# Altium footprint library IPC-SM-782 Section 11.2 SQFP_QFP-Square.PcbLib: 78 footprints (part 5 of 7)
Each footprint in its own frame and in the unit in brackets; x right, y up, seen from the top. Pads: shape width x height; smd on the part's side, far side on the other; paste and mask are expansions set on the pad; w line width, h text height; cw(c..) or ccw(c..) is an arc to the next point about the centre after c.
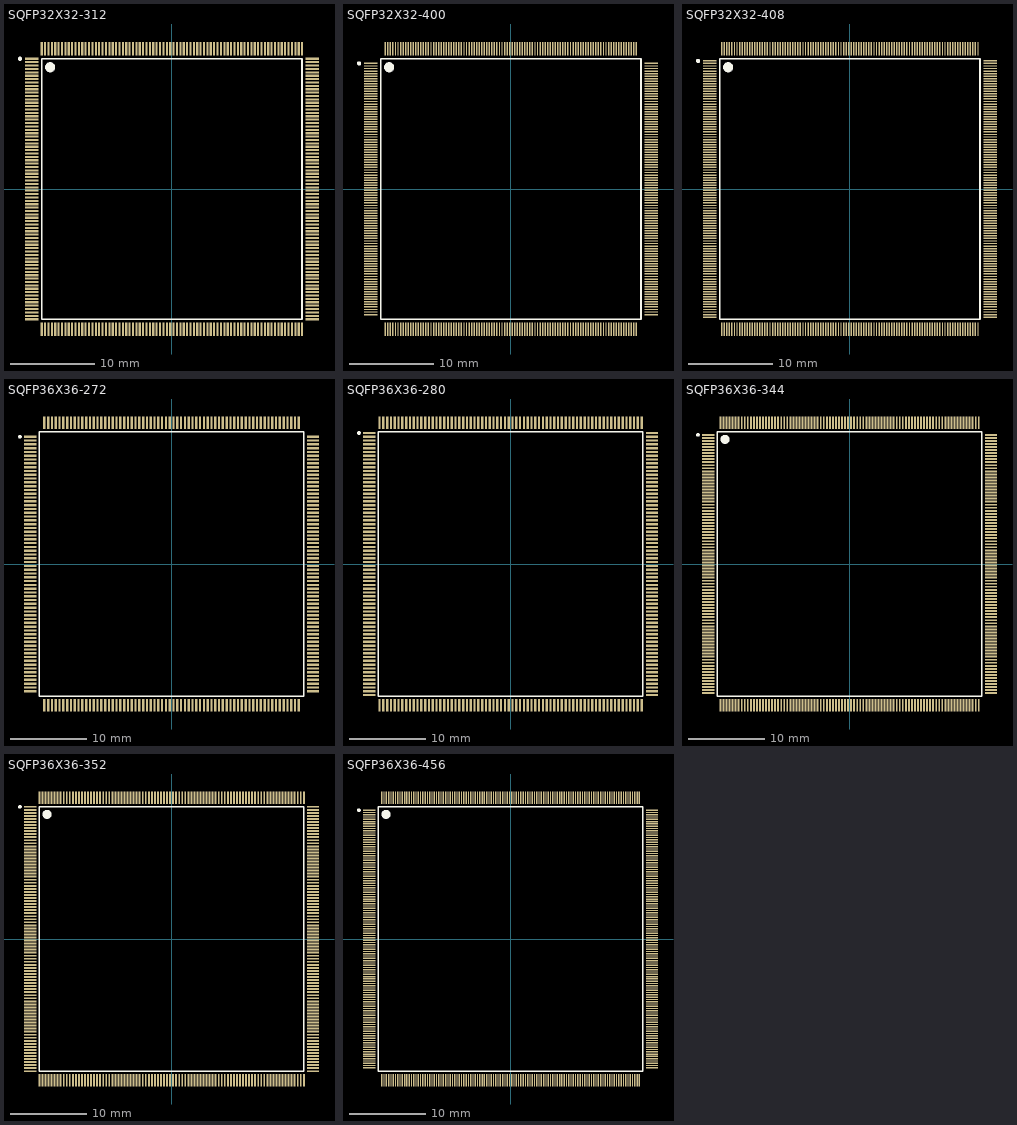
[diagram p4: the footprints below, top view; thin cyan lines are the x and y axes]

## SQFP32X32-312 [mm] "QFP; 312 Leads; Body 32 x 32 mm; Pitch 0.4 mm"
height 4.2
pads (312):
  rect 1.6x0.25 smd: 1(-16.6,15.4) 2(-16.6,15) 3(-16.6,14.6) 4(-16.6,14.2) 5(-16.6,13.8) 6(-16.6,13.4) 7(-16.6,13) 8(-16.6,12.6) 9(-16.6,12.2) 10(-16.6,11.8) 11(-16.6,11.4) 12(-16.6,11) 13(-16.6,10.6) 14(-16.6,10.2) 15(-16.6,9.8) 16(-16.6,9.4) 17(-16.6,9) 18(-16.6,8.6) 19(-16.6,8.2) 20(-16.6,7.8) 21(-16.6,7.4) 22(-16.6,7) 23(-16.6,6.6) 24(-16.6,6.2) 25(-16.6,5.8) 26(-16.6,5.4) 27(-16.6,5) 28(-16.6,4.6) 29(-16.6,4.2) 30(-16.6,3.8) 31(-16.6,3.4) 32(-16.6,3) 33(-16.6,2.6) 34(-16.6,2.2) 35(-16.6,1.8) 36(-16.6,1.4) 37(-16.6,1) 38(-16.6,0.6) 39(-16.6,0.2) 40(-16.6,-0.2) 41(-16.6,-0.6) 42(-16.6,-1) 43(-16.6,-1.4) 44(-16.6,-1.8) 45(-16.6,-2.2) 46(-16.6,-2.6) 47(-16.6,-3) 48(-16.6,-3.4) 49(-16.6,-3.8) 50(-16.6,-4.2) 51(-16.6,-4.6) 52(-16.6,-5) 53(-16.6,-5.4) 54(-16.6,-5.8) 55(-16.6,-6.2) 56(-16.6,-6.6) 57(-16.6,-7) 58(-16.6,-7.4) 59(-16.6,-7.8) 60(-16.6,-8.2) 61(-16.6,-8.6) 62(-16.6,-9) 63(-16.6,-9.4) 64(-16.6,-9.8) 65(-16.6,-10.2) 66(-16.6,-10.6) 67(-16.6,-11) 68(-16.6,-11.4) 69(-16.6,-11.8) 70(-16.6,-12.2) 71(-16.6,-12.6) 72(-16.6,-13) 73(-16.6,-13.4) 74(-16.6,-13.8) 75(-16.6,-14.2) 76(-16.6,-14.6) 77(-16.6,-15) 78(-16.6,-15.4) 157(16.6,-15.4) 158(16.6,-15) 159(16.6,-14.6) 160(16.6,-14.2) 161(16.6,-13.8) 162(16.6,-13.4) 163(16.6,-13) 164(16.6,-12.6) 165(16.6,-12.2) 166(16.6,-11.8) 167(16.6,-11.4) 168(16.6,-11) 169(16.6,-10.6) 170(16.6,-10.2) 171(16.6,-9.8) 172(16.6,-9.4) 173(16.6,-9) 174(16.6,-8.6) 175(16.6,-8.2) 176(16.6,-7.8) 177(16.6,-7.4) 178(16.6,-7) 179(16.6,-6.6) 180(16.6,-6.2) 181(16.6,-5.8) 182(16.6,-5.4) 183(16.6,-5) 184(16.6,-4.6) 185(16.6,-4.2) 186(16.6,-3.8) 187(16.6,-3.4) 188(16.6,-3) 189(16.6,-2.6) 190(16.6,-2.2) 191(16.6,-1.8) 192(16.6,-1.4) 193(16.6,-1) 194(16.6,-0.6) 195(16.6,-0.2) 196(16.6,0.2) 197(16.6,0.6) 198(16.6,1) 199(16.6,1.4) 200(16.6,1.8) 201(16.6,2.2) 202(16.6,2.6) 203(16.6,3) 204(16.6,3.4) 205(16.6,3.8) 206(16.6,4.2) 207(16.6,4.6) 208(16.6,5) 209(16.6,5.4) 210(16.6,5.8) 211(16.6,6.2) 212(16.6,6.6) 213(16.6,7) 214(16.6,7.4) 215(16.6,7.8) 216(16.6,8.2) 217(16.6,8.6) 218(16.6,9) 219(16.6,9.4) 220(16.6,9.8) 221(16.6,10.2) 222(16.6,10.6) 223(16.6,11) 224(16.6,11.4) 225(16.6,11.8) 226(16.6,12.2) 227(16.6,12.6) 228(16.6,13) 229(16.6,13.4) 230(16.6,13.8) 231(16.6,14.2) 232(16.6,14.6) 233(16.6,15) 234(16.6,15.4)
  rect 0.25x1.6 smd: 79(-15.4,-16.6) 80(-15,-16.6) 81(-14.6,-16.6) 82(-14.2,-16.6) 83(-13.8,-16.6) 84(-13.4,-16.6) 85(-13,-16.6) 86(-12.6,-16.6) 87(-12.2,-16.6) 88(-11.8,-16.6) 89(-11.4,-16.6) 90(-11,-16.6) 91(-10.6,-16.6) 92(-10.2,-16.6) 93(-9.8,-16.6) 94(-9.4,-16.6) 95(-9,-16.6) 96(-8.6,-16.6) 97(-8.2,-16.6) 98(-7.8,-16.6) 99(-7.4,-16.6) 100(-7,-16.6) 101(-6.6,-16.6) 102(-6.2,-16.6) 103(-5.8,-16.6) 104(-5.4,-16.6) 105(-5,-16.6) 106(-4.6,-16.6) 107(-4.2,-16.6) 108(-3.8,-16.6) 109(-3.4,-16.6) 110(-3,-16.6) 111(-2.6,-16.6) 112(-2.2,-16.6) 113(-1.8,-16.6) 114(-1.4,-16.6) 115(-1,-16.6) 116(-0.6,-16.6) 117(-0.2,-16.6) 118(0.2,-16.6) 119(0.6,-16.6) 120(1,-16.6) 121(1.4,-16.6) 122(1.8,-16.6) 123(2.2,-16.6) 124(2.6,-16.6) 125(3,-16.6) 126(3.4,-16.6) 127(3.8,-16.6) 128(4.2,-16.6) 129(4.6,-16.6) 130(5,-16.6) 131(5.4,-16.6) 132(5.8,-16.6) 133(6.2,-16.6) 134(6.6,-16.6) 135(7,-16.6) 136(7.4,-16.6) 137(7.8,-16.6) 138(8.2,-16.6) 139(8.6,-16.6) 140(9,-16.6) 141(9.4,-16.6) 142(9.8,-16.6) 143(10.2,-16.6) 144(10.6,-16.6) 145(11,-16.6) 146(11.4,-16.6) 147(11.8,-16.6) 148(12.2,-16.6) 149(12.6,-16.6) 150(13,-16.6) 151(13.4,-16.6) 152(13.8,-16.6) 153(14.2,-16.6) 154(14.6,-16.6) 155(15,-16.6) 156(15.4,-16.6) 235(15.4,16.6) 236(15,16.6) 237(14.6,16.6) 238(14.2,16.6) 239(13.8,16.6) 240(13.4,16.6) 241(13,16.6) 242(12.6,16.6) 243(12.2,16.6) 244(11.8,16.6) 245(11.4,16.6) 246(11,16.6) 247(10.6,16.6) 248(10.2,16.6) 249(9.8,16.6) 250(9.4,16.6) 251(9,16.6) 252(8.6,16.6) 253(8.2,16.6) 254(7.8,16.6) 255(7.4,16.6) 256(7,16.6) 257(6.6,16.6) 258(6.2,16.6) 259(5.8,16.6) 260(5.4,16.6) 261(5,16.6) 262(4.6,16.6) 263(4.2,16.6) 264(3.8,16.6) 265(3.4,16.6) 266(3,16.6) 267(2.6,16.6) 268(2.2,16.6) 269(1.8,16.6) 270(1.4,16.6) 271(1,16.6) 272(0.6,16.6) 273(0.2,16.6) 274(-0.2,16.6) 275(-0.6,16.6) 276(-1,16.6) 277(-1.4,16.6) 278(-1.8,16.6) 279(-2.2,16.6) 280(-2.6,16.6) 281(-3,16.6) 282(-3.4,16.6) 283(-3.8,16.6) 284(-4.2,16.6) 285(-4.6,16.6) 286(-5,16.6) 287(-5.4,16.6) 288(-5.8,16.6) 289(-6.2,16.6) 290(-6.6,16.6) 291(-7,16.6) 292(-7.4,16.6) 293(-7.8,16.6) 294(-8.2,16.6) 295(-8.6,16.6) 296(-9,16.6) 297(-9.4,16.6) 298(-9.8,16.6) 299(-10.2,16.6) 300(-10.6,16.6) 301(-11,16.6) 302(-11.4,16.6) 303(-11.8,16.6) 304(-12.2,16.6) 305(-12.6,16.6) 306(-13,16.6) 307(-13.4,16.6) 308(-13.8,16.6) 309(-14.2,16.6) 310(-14.6,16.6) 311(-15,16.6) 312(-15.4,16.6)
Top Overlay:
  circle w0.6: c-14.4,14.4 r0.3
  circle w0.25: c-17.96,15.4 r0.125
  lines w0.2: -15.4,-15.4 15.4,-15.4 15.4,15.4 -15.4,15.4 -15.4,-15.4

## SQFP32X32-400 [mm] "QFP; 400 Leads; Body 32 x 32 mm; Pitch 0.3 mm"
height 4.2
pads (400):
  rect 1.6x0.17 smd: 1(-16.6,14.85) 2(-16.6,14.55) 3(-16.6,14.25) 4(-16.6,13.95) 5(-16.6,13.65) 6(-16.6,13.35) 7(-16.6,13.05) 8(-16.6,12.75) 9(-16.6,12.45) 10(-16.6,12.15) 11(-16.6,11.85) 12(-16.6,11.55) 13(-16.6,11.25) 14(-16.6,10.95) 15(-16.6,10.65) 16(-16.6,10.35) 17(-16.6,10.05) 18(-16.6,9.75) 19(-16.6,9.45) 20(-16.6,9.15) 21(-16.6,8.85) 22(-16.6,8.55) 23(-16.6,8.25) 24(-16.6,7.95) 25(-16.6,7.65) 26(-16.6,7.35) 27(-16.6,7.05) 28(-16.6,6.75) 29(-16.6,6.45) 30(-16.6,6.15) 31(-16.6,5.85) 32(-16.6,5.55) 33(-16.6,5.25) 34(-16.6,4.95) 35(-16.6,4.65) 36(-16.6,4.35) 37(-16.6,4.05) 38(-16.6,3.75) 39(-16.6,3.45) 40(-16.6,3.15) 41(-16.6,2.85) 42(-16.6,2.55) 43(-16.6,2.25) 44(-16.6,1.95) 45(-16.6,1.65) 46(-16.6,1.35) 47(-16.6,1.05) 48(-16.6,0.75) 49(-16.6,0.45) 50(-16.6,0.15) 51(-16.6,-0.15) 52(-16.6,-0.45) 53(-16.6,-0.75) 54(-16.6,-1.05) 55(-16.6,-1.35) 56(-16.6,-1.65) 57(-16.6,-1.95) 58(-16.6,-2.25) 59(-16.6,-2.55) 60(-16.6,-2.85) 61(-16.6,-3.15) 62(-16.6,-3.45) 63(-16.6,-3.75) 64(-16.6,-4.05) 65(-16.6,-4.35) 66(-16.6,-4.65) 67(-16.6,-4.95) 68(-16.6,-5.25) 69(-16.6,-5.55) 70(-16.6,-5.85) 71(-16.6,-6.15) 72(-16.6,-6.45) 73(-16.6,-6.75) 74(-16.6,-7.05) 75(-16.6,-7.35) 76(-16.6,-7.65) 77(-16.6,-7.95) 78(-16.6,-8.25) 79(-16.6,-8.55) 80(-16.6,-8.85) 81(-16.6,-9.15) 82(-16.6,-9.45) 83(-16.6,-9.75) 84(-16.6,-10.05) 85(-16.6,-10.35) 86(-16.6,-10.65) 87(-16.6,-10.95) 88(-16.6,-11.25) 89(-16.6,-11.55) 90(-16.6,-11.85) 91(-16.6,-12.15) 92(-16.6,-12.45) 93(-16.6,-12.75) 94(-16.6,-13.05) 95(-16.6,-13.35) 96(-16.6,-13.65) 97(-16.6,-13.95) 98(-16.6,-14.25) 99(-16.6,-14.55) 100(-16.6,-14.85) 201(16.6,-14.85) 202(16.6,-14.55) 203(16.6,-14.25) 204(16.6,-13.95) 205(16.6,-13.65) 206(16.6,-13.35) 207(16.6,-13.05) 208(16.6,-12.75) 209(16.6,-12.45) 210(16.6,-12.15) 211(16.6,-11.85) 212(16.6,-11.55) 213(16.6,-11.25) 214(16.6,-10.95) 215(16.6,-10.65) 216(16.6,-10.35) 217(16.6,-10.05) 218(16.6,-9.75) 219(16.6,-9.45) 220(16.6,-9.15) 221(16.6,-8.85) 222(16.6,-8.55) 223(16.6,-8.25) 224(16.6,-7.95) 225(16.6,-7.65) 226(16.6,-7.35) 227(16.6,-7.05) 228(16.6,-6.75) 229(16.6,-6.45) 230(16.6,-6.15) 231(16.6,-5.85) 232(16.6,-5.55) 233(16.6,-5.25) 234(16.6,-4.95) 235(16.6,-4.65) 236(16.6,-4.35) 237(16.6,-4.05) 238(16.6,-3.75) 239(16.6,-3.45) 240(16.6,-3.15) 241(16.6,-2.85) 242(16.6,-2.55) 243(16.6,-2.25) 244(16.6,-1.95) 245(16.6,-1.65) 246(16.6,-1.35) 247(16.6,-1.05) 248(16.6,-0.75) 249(16.6,-0.45) 250(16.6,-0.15) 251(16.6,0.15) 252(16.6,0.45) 253(16.6,0.75) 254(16.6,1.05) 255(16.6,1.35) 256(16.6,1.65) 257(16.6,1.95) 258(16.6,2.25) 259(16.6,2.55) 260(16.6,2.85) 261(16.6,3.15) 262(16.6,3.45) 263(16.6,3.75) 264(16.6,4.05) 265(16.6,4.35) 266(16.6,4.65) 267(16.6,4.95) 268(16.6,5.25) 269(16.6,5.55) 270(16.6,5.85) 271(16.6,6.15) 272(16.6,6.45) 273(16.6,6.75) 274(16.6,7.05) 275(16.6,7.35) 276(16.6,7.65) 277(16.6,7.95) 278(16.6,8.25) 279(16.6,8.55) 280(16.6,8.85) 281(16.6,9.15) 282(16.6,9.45) 283(16.6,9.75) 284(16.6,10.05) 285(16.6,10.35) 286(16.6,10.65) 287(16.6,10.95) 288(16.6,11.25) 289(16.6,11.55) 290(16.6,11.85) 291(16.6,12.15) 292(16.6,12.45) 293(16.6,12.75) 294(16.6,13.05) 295(16.6,13.35) 296(16.6,13.65) 297(16.6,13.95) 298(16.6,14.25) 299(16.6,14.55) 300(16.6,14.85)
  rect 0.17x1.6 smd: 101(-14.85,-16.6) 102(-14.55,-16.6) 103(-14.25,-16.6) 104(-13.95,-16.6) 105(-13.65,-16.6) 106(-13.35,-16.6) 107(-13.05,-16.6) 108(-12.75,-16.6) 109(-12.45,-16.6) 110(-12.15,-16.6) 111(-11.85,-16.6) 112(-11.55,-16.6) 113(-11.25,-16.6) 114(-10.95,-16.6) 115(-10.65,-16.6) 116(-10.35,-16.6) 117(-10.05,-16.6) 118(-9.75,-16.6) 119(-9.45,-16.6) 120(-9.15,-16.6) 121(-8.85,-16.6) 122(-8.55,-16.6) 123(-8.25,-16.6) 124(-7.95,-16.6) 125(-7.65,-16.6) 126(-7.35,-16.6) 127(-7.05,-16.6) 128(-6.75,-16.6) 129(-6.45,-16.6) 130(-6.15,-16.6) 131(-5.85,-16.6) 132(-5.55,-16.6) 133(-5.25,-16.6) 134(-4.95,-16.6) 135(-4.65,-16.6) 136(-4.35,-16.6) 137(-4.05,-16.6) 138(-3.75,-16.6) 139(-3.45,-16.6) 140(-3.15,-16.6) 141(-2.85,-16.6) 142(-2.55,-16.6) 143(-2.25,-16.6) 144(-1.95,-16.6) 145(-1.65,-16.6) 146(-1.35,-16.6) 147(-1.05,-16.6) 148(-0.75,-16.6) 149(-0.45,-16.6) 150(-0.15,-16.6) 151(0.15,-16.6) 152(0.45,-16.6) 153(0.75,-16.6) 154(1.05,-16.6) 155(1.35,-16.6) 156(1.65,-16.6) 157(1.95,-16.6) 158(2.25,-16.6) 159(2.55,-16.6) 160(2.85,-16.6) 161(3.15,-16.6) 162(3.45,-16.6) 163(3.75,-16.6) 164(4.05,-16.6) 165(4.35,-16.6) 166(4.65,-16.6) 167(4.95,-16.6) 168(5.25,-16.6) 169(5.55,-16.6) 170(5.85,-16.6) 171(6.15,-16.6) 172(6.45,-16.6) 173(6.75,-16.6) 174(7.05,-16.6) 175(7.35,-16.6) 176(7.65,-16.6) 177(7.95,-16.6) 178(8.25,-16.6) 179(8.55,-16.6) 180(8.85,-16.6) 181(9.15,-16.6) 182(9.45,-16.6) 183(9.75,-16.6) 184(10.05,-16.6) 185(10.35,-16.6) 186(10.65,-16.6) 187(10.95,-16.6) 188(11.25,-16.6) 189(11.55,-16.6) 190(11.85,-16.6) 191(12.15,-16.6) 192(12.45,-16.6) 193(12.75,-16.6) 194(13.05,-16.6) 195(13.35,-16.6) 196(13.65,-16.6) 197(13.95,-16.6) 198(14.25,-16.6) 199(14.55,-16.6) 200(14.85,-16.6) 301(14.85,16.6) 302(14.55,16.6) 303(14.25,16.6) 304(13.95,16.6) 305(13.65,16.6) 306(13.35,16.6) 307(13.05,16.6) 308(12.75,16.6) 309(12.45,16.6) 310(12.15,16.6) 311(11.85,16.6) 312(11.55,16.6) 313(11.25,16.6) 314(10.95,16.6) 315(10.65,16.6) 316(10.35,16.6) 317(10.05,16.6) 318(9.75,16.6) 319(9.45,16.6) 320(9.15,16.6) 321(8.85,16.6) 322(8.55,16.6) 323(8.25,16.6) 324(7.95,16.6) 325(7.65,16.6) 326(7.35,16.6) 327(7.05,16.6) 328(6.75,16.6) 329(6.45,16.6) 330(6.15,16.6) 331(5.85,16.6) 332(5.55,16.6) 333(5.25,16.6) 334(4.95,16.6) 335(4.65,16.6) 336(4.35,16.6) 337(4.05,16.6) 338(3.75,16.6) 339(3.45,16.6) 340(3.15,16.6) 341(2.85,16.6) 342(2.55,16.6) 343(2.25,16.6) 344(1.95,16.6) 345(1.65,16.6) 346(1.35,16.6) 347(1.05,16.6) 348(0.75,16.6) 349(0.45,16.6) 350(0.15,16.6) 351(-0.15,16.6) 352(-0.45,16.6) 353(-0.75,16.6) 354(-1.05,16.6) 355(-1.35,16.6) 356(-1.65,16.6) 357(-1.95,16.6) 358(-2.25,16.6) 359(-2.55,16.6) 360(-2.85,16.6) 361(-3.15,16.6) 362(-3.45,16.6) 363(-3.75,16.6) 364(-4.05,16.6) 365(-4.35,16.6) 366(-4.65,16.6) 367(-4.95,16.6) 368(-5.25,16.6) 369(-5.55,16.6) 370(-5.85,16.6) 371(-6.15,16.6) 372(-6.45,16.6) 373(-6.75,16.6) 374(-7.05,16.6) 375(-7.35,16.6) 376(-7.65,16.6) 377(-7.95,16.6) 378(-8.25,16.6) 379(-8.55,16.6) 380(-8.85,16.6) 381(-9.15,16.6) 382(-9.45,16.6) 383(-9.75,16.6) 384(-10.05,16.6) 385(-10.35,16.6) 386(-10.65,16.6) 387(-10.95,16.6) 388(-11.25,16.6) 389(-11.55,16.6) 390(-11.85,16.6) 391(-12.15,16.6) 392(-12.45,16.6) 393(-12.75,16.6) 394(-13.05,16.6) 395(-13.35,16.6) 396(-13.65,16.6) 397(-13.95,16.6) 398(-14.25,16.6) 399(-14.55,16.6) 400(-14.85,16.6)
Top Overlay:
  circle w0.25: c-17.96,14.85 r0.125
  circle w0.6: c-14.4,14.4 r0.3
  lines w0.2: -15.4,-15.4 15.4,-15.4 15.4,15.4 -15.4,15.4 -15.4,-15.4

## SQFP32X32-408 [mm] "QFP; 408 Leads; Body 32 x 32 mm; Pitch 0.3 mm"
height 4.2
pads (408):
  rect 1.6x0.17 smd: 1(-16.6,15.15) 2(-16.6,14.85) 3(-16.6,14.55) 4(-16.6,14.25) 5(-16.6,13.95) 6(-16.6,13.65) 7(-16.6,13.35) 8(-16.6,13.05) 9(-16.6,12.75) 10(-16.6,12.45) 11(-16.6,12.15) 12(-16.6,11.85) 13(-16.6,11.55) 14(-16.6,11.25) 15(-16.6,10.95) 16(-16.6,10.65) 17(-16.6,10.35) 18(-16.6,10.05) 19(-16.6,9.75) 20(-16.6,9.45) 21(-16.6,9.15) 22(-16.6,8.85) 23(-16.6,8.55) 24(-16.6,8.25) 25(-16.6,7.95) 26(-16.6,7.65) 27(-16.6,7.35) 28(-16.6,7.05) 29(-16.6,6.75) 30(-16.6,6.45) 31(-16.6,6.15) 32(-16.6,5.85) 33(-16.6,5.55) 34(-16.6,5.25) 35(-16.6,4.95) 36(-16.6,4.65) 37(-16.6,4.35) 38(-16.6,4.05) 39(-16.6,3.75) 40(-16.6,3.45) 41(-16.6,3.15) 42(-16.6,2.85) 43(-16.6,2.55) 44(-16.6,2.25) 45(-16.6,1.95) 46(-16.6,1.65) 47(-16.6,1.35) 48(-16.6,1.05) 49(-16.6,0.75) 50(-16.6,0.45) 51(-16.6,0.15) 52(-16.6,-0.15) 53(-16.6,-0.45) 54(-16.6,-0.75) 55(-16.6,-1.05) 56(-16.6,-1.35) 57(-16.6,-1.65) 58(-16.6,-1.95) 59(-16.6,-2.25) 60(-16.6,-2.55) 61(-16.6,-2.85) 62(-16.6,-3.15) 63(-16.6,-3.45) 64(-16.6,-3.75) 65(-16.6,-4.05) 66(-16.6,-4.35) 67(-16.6,-4.65) 68(-16.6,-4.95) 69(-16.6,-5.25) 70(-16.6,-5.55) 71(-16.6,-5.85) 72(-16.6,-6.15) 73(-16.6,-6.45) 74(-16.6,-6.75) 75(-16.6,-7.05) 76(-16.6,-7.35) 77(-16.6,-7.65) 78(-16.6,-7.95) 79(-16.6,-8.25) 80(-16.6,-8.55) 81(-16.6,-8.85) 82(-16.6,-9.15) 83(-16.6,-9.45) 84(-16.6,-9.75) 85(-16.6,-10.05) 86(-16.6,-10.35) 87(-16.6,-10.65) 88(-16.6,-10.95) 89(-16.6,-11.25) 90(-16.6,-11.55) 91(-16.6,-11.85) 92(-16.6,-12.15) 93(-16.6,-12.45) 94(-16.6,-12.75) 95(-16.6,-13.05) 96(-16.6,-13.35) 97(-16.6,-13.65) 98(-16.6,-13.95) 99(-16.6,-14.25) 100(-16.6,-14.55) 101(-16.6,-14.85) 102(-16.6,-15.15) 205(16.6,-15.15) 206(16.6,-14.85) 207(16.6,-14.55) 208(16.6,-14.25) 209(16.6,-13.95) 210(16.6,-13.65) 211(16.6,-13.35) 212(16.6,-13.05) 213(16.6,-12.75) 214(16.6,-12.45) 215(16.6,-12.15) 216(16.6,-11.85) 217(16.6,-11.55) 218(16.6,-11.25) 219(16.6,-10.95) 220(16.6,-10.65) 221(16.6,-10.35) 222(16.6,-10.05) 223(16.6,-9.75) 224(16.6,-9.45) 225(16.6,-9.15) 226(16.6,-8.85) 227(16.6,-8.55) 228(16.6,-8.25) 229(16.6,-7.95) 230(16.6,-7.65) 231(16.6,-7.35) 232(16.6,-7.05) 233(16.6,-6.75) 234(16.6,-6.45) 235(16.6,-6.15) 236(16.6,-5.85) 237(16.6,-5.55) 238(16.6,-5.25) 239(16.6,-4.95) 240(16.6,-4.65) 241(16.6,-4.35) 242(16.6,-4.05) 243(16.6,-3.75) 244(16.6,-3.45) 245(16.6,-3.15) 246(16.6,-2.85) 247(16.6,-2.55) 248(16.6,-2.25) 249(16.6,-1.95) 250(16.6,-1.65) 251(16.6,-1.35) 252(16.6,-1.05) 253(16.6,-0.75) 254(16.6,-0.45) 255(16.6,-0.15) 256(16.6,0.15) 257(16.6,0.45) 258(16.6,0.75) 259(16.6,1.05) 260(16.6,1.35) 261(16.6,1.65) 262(16.6,1.95) 263(16.6,2.25) 264(16.6,2.55) 265(16.6,2.85) 266(16.6,3.15) 267(16.6,3.45) 268(16.6,3.75) 269(16.6,4.05) 270(16.6,4.35) 271(16.6,4.65) 272(16.6,4.95) 273(16.6,5.25) 274(16.6,5.55) 275(16.6,5.85) 276(16.6,6.15) 277(16.6,6.45) 278(16.6,6.75) 279(16.6,7.05) 280(16.6,7.35) 281(16.6,7.65) 282(16.6,7.95) 283(16.6,8.25) 284(16.6,8.55) 285(16.6,8.85) 286(16.6,9.15) 287(16.6,9.45) 288(16.6,9.75) 289(16.6,10.05) 290(16.6,10.35) 291(16.6,10.65) 292(16.6,10.95) 293(16.6,11.25) 294(16.6,11.55) 295(16.6,11.85) 296(16.6,12.15) 297(16.6,12.45) 298(16.6,12.75) 299(16.6,13.05) 300(16.6,13.35) 301(16.6,13.65) 302(16.6,13.95) 303(16.6,14.25) 304(16.6,14.55) 305(16.6,14.85) 306(16.6,15.15)
  rect 0.17x1.6 smd: 103(-15.15,-16.6) 104(-14.85,-16.6) 105(-14.55,-16.6) 106(-14.25,-16.6) 107(-13.95,-16.6) 108(-13.65,-16.6) 109(-13.35,-16.6) 110(-13.05,-16.6) 111(-12.75,-16.6) 112(-12.45,-16.6) 113(-12.15,-16.6) 114(-11.85,-16.6) 115(-11.55,-16.6) 116(-11.25,-16.6) 117(-10.95,-16.6) 118(-10.65,-16.6) 119(-10.35,-16.6) 120(-10.05,-16.6) 121(-9.75,-16.6) 122(-9.45,-16.6) 123(-9.15,-16.6) 124(-8.85,-16.6) 125(-8.55,-16.6) 126(-8.25,-16.6) 127(-7.95,-16.6) 128(-7.65,-16.6) 129(-7.35,-16.6) 130(-7.05,-16.6) 131(-6.75,-16.6) 132(-6.45,-16.6) 133(-6.15,-16.6) 134(-5.85,-16.6) 135(-5.55,-16.6) 136(-5.25,-16.6) 137(-4.95,-16.6) 138(-4.65,-16.6) 139(-4.35,-16.6) 140(-4.05,-16.6) 141(-3.75,-16.6) 142(-3.45,-16.6) 143(-3.15,-16.6) 144(-2.85,-16.6) 145(-2.55,-16.6) 146(-2.25,-16.6) 147(-1.95,-16.6) 148(-1.65,-16.6) 149(-1.35,-16.6) 150(-1.05,-16.6) 151(-0.75,-16.6) 152(-0.45,-16.6) 153(-0.15,-16.6) 154(0.15,-16.6) 155(0.45,-16.6) 156(0.75,-16.6) 157(1.05,-16.6) 158(1.35,-16.6) 159(1.65,-16.6) 160(1.95,-16.6) 161(2.25,-16.6) 162(2.55,-16.6) 163(2.85,-16.6) 164(3.15,-16.6) 165(3.45,-16.6) 166(3.75,-16.6) 167(4.05,-16.6) 168(4.35,-16.6) 169(4.65,-16.6) 170(4.95,-16.6) 171(5.25,-16.6) 172(5.55,-16.6) 173(5.85,-16.6) 174(6.15,-16.6) 175(6.45,-16.6) 176(6.75,-16.6) 177(7.05,-16.6) 178(7.35,-16.6) 179(7.65,-16.6) 180(7.95,-16.6) 181(8.25,-16.6) 182(8.55,-16.6) 183(8.85,-16.6) 184(9.15,-16.6) 185(9.45,-16.6) 186(9.75,-16.6) 187(10.05,-16.6) 188(10.35,-16.6) 189(10.65,-16.6) 190(10.95,-16.6) 191(11.25,-16.6) 192(11.55,-16.6) 193(11.85,-16.6) 194(12.15,-16.6) 195(12.45,-16.6) 196(12.75,-16.6) 197(13.05,-16.6) 198(13.35,-16.6) 199(13.65,-16.6) 200(13.95,-16.6) 201(14.25,-16.6) 202(14.55,-16.6) 203(14.85,-16.6) 204(15.15,-16.6) 307(15.15,16.6) 308(14.85,16.6) 309(14.55,16.6) 310(14.25,16.6) 311(13.95,16.6) 312(13.65,16.6) 313(13.35,16.6) 314(13.05,16.6) 315(12.75,16.6) 316(12.45,16.6) 317(12.15,16.6) 318(11.85,16.6) 319(11.55,16.6) 320(11.25,16.6) 321(10.95,16.6) 322(10.65,16.6) 323(10.35,16.6) 324(10.05,16.6) 325(9.75,16.6) 326(9.45,16.6) 327(9.15,16.6) 328(8.85,16.6) 329(8.55,16.6) 330(8.25,16.6) 331(7.95,16.6) 332(7.65,16.6) 333(7.35,16.6) 334(7.05,16.6) 335(6.75,16.6) 336(6.45,16.6) 337(6.15,16.6) 338(5.85,16.6) 339(5.55,16.6) 340(5.25,16.6) 341(4.95,16.6) 342(4.65,16.6) 343(4.35,16.6) 344(4.05,16.6) 345(3.75,16.6) 346(3.45,16.6) 347(3.15,16.6) 348(2.85,16.6) 349(2.55,16.6) 350(2.25,16.6) 351(1.95,16.6) 352(1.65,16.6) 353(1.35,16.6) 354(1.05,16.6) 355(0.75,16.6) 356(0.45,16.6) 357(0.15,16.6) 358(-0.15,16.6) 359(-0.45,16.6) 360(-0.75,16.6) 361(-1.05,16.6) 362(-1.35,16.6) 363(-1.65,16.6) 364(-1.95,16.6) 365(-2.25,16.6) 366(-2.55,16.6) 367(-2.85,16.6) 368(-3.15,16.6) 369(-3.45,16.6) 370(-3.75,16.6) 371(-4.05,16.6) 372(-4.35,16.6) 373(-4.65,16.6) 374(-4.95,16.6) 375(-5.25,16.6) 376(-5.55,16.6) 377(-5.85,16.6) 378(-6.15,16.6) 379(-6.45,16.6) 380(-6.75,16.6) 381(-7.05,16.6) 382(-7.35,16.6) 383(-7.65,16.6) 384(-7.95,16.6) 385(-8.25,16.6) 386(-8.55,16.6) 387(-8.85,16.6) 388(-9.15,16.6) 389(-9.45,16.6) 390(-9.75,16.6) 391(-10.05,16.6) 392(-10.35,16.6) 393(-10.65,16.6) 394(-10.95,16.6) 395(-11.25,16.6) 396(-11.55,16.6) 397(-11.85,16.6) 398(-12.15,16.6) 399(-12.45,16.6) 400(-12.75,16.6) 401(-13.05,16.6) 402(-13.35,16.6) 403(-13.65,16.6) 404(-13.95,16.6) 405(-14.25,16.6) 406(-14.55,16.6) 407(-14.85,16.6) 408(-15.15,16.6)
Top Overlay:
  circle w0.25: c-17.96,15.15 r0.125
  circle w0.6: c-14.4,14.4 r0.3
  lines w0.2: -15.4,-15.4 15.4,-15.4 15.4,15.4 -15.4,15.4 -15.4,-15.4

## SQFP36X36-272 [mm] "QFP; 272 Leads; Body 36 x 36 mm; Pitch 0.5 mm"
height 4.2
pads (272):
  rect 1.6x0.3 smd: 1(-18.6,16.75) 2(-18.6,16.25) 3(-18.6,15.75) 4(-18.6,15.25) 5(-18.6,14.75) 6(-18.6,14.25) 7(-18.6,13.75) 8(-18.6,13.25) 9(-18.6,12.75) 10(-18.6,12.25) 11(-18.6,11.75) 12(-18.6,11.25) 13(-18.6,10.75) 14(-18.6,10.25) 15(-18.6,9.75) 16(-18.6,9.25) 17(-18.6,8.75) 18(-18.6,8.25) 19(-18.6,7.75) 20(-18.6,7.25) 21(-18.6,6.75) 22(-18.6,6.25) 23(-18.6,5.75) 24(-18.6,5.25) 25(-18.6,4.75) 26(-18.6,4.25) 27(-18.6,3.75) 28(-18.6,3.25) 29(-18.6,2.75) 30(-18.6,2.25) 31(-18.6,1.75) 32(-18.6,1.25) 33(-18.6,0.75) 34(-18.6,0.25) 35(-18.6,-0.25) 36(-18.6,-0.75) 37(-18.6,-1.25) 38(-18.6,-1.75) 39(-18.6,-2.25) 40(-18.6,-2.75) 41(-18.6,-3.25) 42(-18.6,-3.75) 43(-18.6,-4.25) 44(-18.6,-4.75) 45(-18.6,-5.25) 46(-18.6,-5.75) 47(-18.6,-6.25) 48(-18.6,-6.75) 49(-18.6,-7.25) 50(-18.6,-7.75) 51(-18.6,-8.25) 52(-18.6,-8.75) 53(-18.6,-9.25) 54(-18.6,-9.75) 55(-18.6,-10.25) 56(-18.6,-10.75) 57(-18.6,-11.25) 58(-18.6,-11.75) 59(-18.6,-12.25) 60(-18.6,-12.75) 61(-18.6,-13.25) 62(-18.6,-13.75) 63(-18.6,-14.25) 64(-18.6,-14.75) 65(-18.6,-15.25) 66(-18.6,-15.75) 67(-18.6,-16.25) 68(-18.6,-16.75) 137(18.6,-16.75) 138(18.6,-16.25) 139(18.6,-15.75) 140(18.6,-15.25) 141(18.6,-14.75) 142(18.6,-14.25) 143(18.6,-13.75) 144(18.6,-13.25) 145(18.6,-12.75) 146(18.6,-12.25) 147(18.6,-11.75) 148(18.6,-11.25) 149(18.6,-10.75) 150(18.6,-10.25) 151(18.6,-9.75) 152(18.6,-9.25) 153(18.6,-8.75) 154(18.6,-8.25) 155(18.6,-7.75) 156(18.6,-7.25) 157(18.6,-6.75) 158(18.6,-6.25) 159(18.6,-5.75) 160(18.6,-5.25) 161(18.6,-4.75) 162(18.6,-4.25) 163(18.6,-3.75) 164(18.6,-3.25) 165(18.6,-2.75) 166(18.6,-2.25) 167(18.6,-1.75) 168(18.6,-1.25) 169(18.6,-0.75) 170(18.6,-0.25) 171(18.6,0.25) 172(18.6,0.75) 173(18.6,1.25) 174(18.6,1.75) 175(18.6,2.25) 176(18.6,2.75) 177(18.6,3.25) 178(18.6,3.75) 179(18.6,4.25) 180(18.6,4.75) 181(18.6,5.25) 182(18.6,5.75) 183(18.6,6.25) 184(18.6,6.75) 185(18.6,7.25) 186(18.6,7.75) 187(18.6,8.25) 188(18.6,8.75) 189(18.6,9.25) 190(18.6,9.75) 191(18.6,10.25) 192(18.6,10.75) 193(18.6,11.25) 194(18.6,11.75) 195(18.6,12.25) 196(18.6,12.75) 197(18.6,13.25) 198(18.6,13.75) 199(18.6,14.25) 200(18.6,14.75) 201(18.6,15.25) 202(18.6,15.75) 203(18.6,16.25) 204(18.6,16.75)
  rect 0.3x1.6 smd: 69(-16.75,-18.6) 70(-16.25,-18.6) 71(-15.75,-18.6) 72(-15.25,-18.6) 73(-14.75,-18.6) 74(-14.25,-18.6) 75(-13.75,-18.6) 76(-13.25,-18.6) 77(-12.75,-18.6) 78(-12.25,-18.6) 79(-11.75,-18.6) 80(-11.25,-18.6) 81(-10.75,-18.6) 82(-10.25,-18.6) 83(-9.75,-18.6) 84(-9.25,-18.6) 85(-8.75,-18.6) 86(-8.25,-18.6) 87(-7.75,-18.6) 88(-7.25,-18.6) 89(-6.75,-18.6) 90(-6.25,-18.6) 91(-5.75,-18.6) 92(-5.25,-18.6) 93(-4.75,-18.6) 94(-4.25,-18.6) 95(-3.75,-18.6) 96(-3.25,-18.6) 97(-2.75,-18.6) 98(-2.25,-18.6) 99(-1.75,-18.6) 100(-1.25,-18.6) 101(-0.75,-18.6) 102(-0.25,-18.6) 103(0.25,-18.6) 104(0.75,-18.6) 105(1.25,-18.6) 106(1.75,-18.6) 107(2.25,-18.6) 108(2.75,-18.6) 109(3.25,-18.6) 110(3.75,-18.6) 111(4.25,-18.6) 112(4.75,-18.6) 113(5.25,-18.6) 114(5.75,-18.6) 115(6.25,-18.6) 116(6.75,-18.6) 117(7.25,-18.6) 118(7.75,-18.6) 119(8.25,-18.6) 120(8.75,-18.6) 121(9.25,-18.6) 122(9.75,-18.6) 123(10.25,-18.6) 124(10.75,-18.6) 125(11.25,-18.6) 126(11.75,-18.6) 127(12.25,-18.6) 128(12.75,-18.6) 129(13.25,-18.6) 130(13.75,-18.6) 131(14.25,-18.6) 132(14.75,-18.6) 133(15.25,-18.6) 134(15.75,-18.6) 135(16.25,-18.6) 136(16.75,-18.6) 205(16.75,18.6) 206(16.25,18.6) 207(15.75,18.6) 208(15.25,18.6) 209(14.75,18.6) 210(14.25,18.6) 211(13.75,18.6) 212(13.25,18.6) 213(12.75,18.6) 214(12.25,18.6) 215(11.75,18.6) 216(11.25,18.6) 217(10.75,18.6) 218(10.25,18.6) 219(9.75,18.6) 220(9.25,18.6) 221(8.75,18.6) 222(8.25,18.6) 223(7.75,18.6) 224(7.25,18.6) 225(6.75,18.6) 226(6.25,18.6) 227(5.75,18.6) 228(5.25,18.6) 229(4.75,18.6) 230(4.25,18.6) 231(3.75,18.6) 232(3.25,18.6) 233(2.75,18.6) 234(2.25,18.6) 235(1.75,18.6) 236(1.25,18.6) 237(0.75,18.6) 238(0.25,18.6) 239(-0.25,18.6) 240(-0.75,18.6) 241(-1.25,18.6) 242(-1.75,18.6) 243(-2.25,18.6) 244(-2.75,18.6) 245(-3.25,18.6) 246(-3.75,18.6) 247(-4.25,18.6) 248(-4.75,18.6) 249(-5.25,18.6) 250(-5.75,18.6) 251(-6.25,18.6) 252(-6.75,18.6) 253(-7.25,18.6) 254(-7.75,18.6) 255(-8.25,18.6) 256(-8.75,18.6) 257(-9.25,18.6) 258(-9.75,18.6) 259(-10.25,18.6) 260(-10.75,18.6) 261(-11.25,18.6) 262(-11.75,18.6) 263(-12.25,18.6) 264(-12.75,18.6) 265(-13.25,18.6) 266(-13.75,18.6) 267(-14.25,18.6) 268(-14.75,18.6) 269(-15.25,18.6) 270(-15.75,18.6) 271(-16.25,18.6) 272(-16.75,18.6)
Top Overlay:
  circle w0.25: c-19.96,16.75 r0.125
  lines w0.2: -17.4,-17.4 17.4,-17.4 17.4,17.4 -17.4,17.4 -17.4,-17.4

## SQFP36X36-280 [mm] "QFP; 280 Leads; Body 36 x 36 mm; Pitch 0.5 mm"
height 4.2
pads (280):
  rect 1.6x0.3 smd: 1(-18.6,17.25) 2(-18.6,16.75) 3(-18.6,16.25) 4(-18.6,15.75) 5(-18.6,15.25) 6(-18.6,14.75) 7(-18.6,14.25) 8(-18.6,13.75) 9(-18.6,13.25) 10(-18.6,12.75) 11(-18.6,12.25) 12(-18.6,11.75) 13(-18.6,11.25) 14(-18.6,10.75) 15(-18.6,10.25) 16(-18.6,9.75) 17(-18.6,9.25) 18(-18.6,8.75) 19(-18.6,8.25) 20(-18.6,7.75) 21(-18.6,7.25) 22(-18.6,6.75) 23(-18.6,6.25) 24(-18.6,5.75) 25(-18.6,5.25) 26(-18.6,4.75) 27(-18.6,4.25) 28(-18.6,3.75) 29(-18.6,3.25) 30(-18.6,2.75) 31(-18.6,2.25) 32(-18.6,1.75) 33(-18.6,1.25) 34(-18.6,0.75) 35(-18.6,0.25) 36(-18.6,-0.25) 37(-18.6,-0.75) 38(-18.6,-1.25) 39(-18.6,-1.75) 40(-18.6,-2.25) 41(-18.6,-2.75) 42(-18.6,-3.25) 43(-18.6,-3.75) 44(-18.6,-4.25) 45(-18.6,-4.75) 46(-18.6,-5.25) 47(-18.6,-5.75) 48(-18.6,-6.25) 49(-18.6,-6.75) 50(-18.6,-7.25) 51(-18.6,-7.75) 52(-18.6,-8.25) 53(-18.6,-8.75) 54(-18.6,-9.25) 55(-18.6,-9.75) 56(-18.6,-10.25) 57(-18.6,-10.75) 58(-18.6,-11.25) 59(-18.6,-11.75) 60(-18.6,-12.25) 61(-18.6,-12.75) 62(-18.6,-13.25) 63(-18.6,-13.75) 64(-18.6,-14.25) 65(-18.6,-14.75) 66(-18.6,-15.25) 67(-18.6,-15.75) 68(-18.6,-16.25) 69(-18.6,-16.75) 70(-18.6,-17.25) 141(18.6,-17.25) 142(18.6,-16.75) 143(18.6,-16.25) 144(18.6,-15.75) 145(18.6,-15.25) 146(18.6,-14.75) 147(18.6,-14.25) 148(18.6,-13.75) 149(18.6,-13.25) 150(18.6,-12.75) 151(18.6,-12.25) 152(18.6,-11.75) 153(18.6,-11.25) 154(18.6,-10.75) 155(18.6,-10.25) 156(18.6,-9.75) 157(18.6,-9.25) 158(18.6,-8.75) 159(18.6,-8.25) 160(18.6,-7.75) 161(18.6,-7.25) 162(18.6,-6.75) 163(18.6,-6.25) 164(18.6,-5.75) 165(18.6,-5.25) 166(18.6,-4.75) 167(18.6,-4.25) 168(18.6,-3.75) 169(18.6,-3.25) 170(18.6,-2.75) 171(18.6,-2.25) 172(18.6,-1.75) 173(18.6,-1.25) 174(18.6,-0.75) 175(18.6,-0.25) 176(18.6,0.25) 177(18.6,0.75) 178(18.6,1.25) 179(18.6,1.75) 180(18.6,2.25) 181(18.6,2.75) 182(18.6,3.25) 183(18.6,3.75) 184(18.6,4.25) 185(18.6,4.75) 186(18.6,5.25) 187(18.6,5.75) 188(18.6,6.25) 189(18.6,6.75) 190(18.6,7.25) 191(18.6,7.75) 192(18.6,8.25) 193(18.6,8.75) 194(18.6,9.25) 195(18.6,9.75) 196(18.6,10.25) 197(18.6,10.75) 198(18.6,11.25) 199(18.6,11.75) 200(18.6,12.25) 201(18.6,12.75) 202(18.6,13.25) 203(18.6,13.75) 204(18.6,14.25) 205(18.6,14.75) 206(18.6,15.25) 207(18.6,15.75) 208(18.6,16.25) 209(18.6,16.75) 210(18.6,17.25)
  rect 0.3x1.6 smd: 71(-17.25,-18.6) 72(-16.75,-18.6) 73(-16.25,-18.6) 74(-15.75,-18.6) 75(-15.25,-18.6) 76(-14.75,-18.6) 77(-14.25,-18.6) 78(-13.75,-18.6) 79(-13.25,-18.6) 80(-12.75,-18.6) 81(-12.25,-18.6) 82(-11.75,-18.6) 83(-11.25,-18.6) 84(-10.75,-18.6) 85(-10.25,-18.6) 86(-9.75,-18.6) 87(-9.25,-18.6) 88(-8.75,-18.6) 89(-8.25,-18.6) 90(-7.75,-18.6) 91(-7.25,-18.6) 92(-6.75,-18.6) 93(-6.25,-18.6) 94(-5.75,-18.6) 95(-5.25,-18.6) 96(-4.75,-18.6) 97(-4.25,-18.6) 98(-3.75,-18.6) 99(-3.25,-18.6) 100(-2.75,-18.6) 101(-2.25,-18.6) 102(-1.75,-18.6) 103(-1.25,-18.6) 104(-0.75,-18.6) 105(-0.25,-18.6) 106(0.25,-18.6) 107(0.75,-18.6) 108(1.25,-18.6) 109(1.75,-18.6) 110(2.25,-18.6) 111(2.75,-18.6) 112(3.25,-18.6) 113(3.75,-18.6) 114(4.25,-18.6) 115(4.75,-18.6) 116(5.25,-18.6) 117(5.75,-18.6) 118(6.25,-18.6) 119(6.75,-18.6) 120(7.25,-18.6) 121(7.75,-18.6) 122(8.25,-18.6) 123(8.75,-18.6) 124(9.25,-18.6) 125(9.75,-18.6) 126(10.25,-18.6) 127(10.75,-18.6) 128(11.25,-18.6) 129(11.75,-18.6) 130(12.25,-18.6) 131(12.75,-18.6) 132(13.25,-18.6) 133(13.75,-18.6) 134(14.25,-18.6) 135(14.75,-18.6) 136(15.25,-18.6) 137(15.75,-18.6) 138(16.25,-18.6) 139(16.75,-18.6) 140(17.25,-18.6) 211(17.25,18.6) 212(16.75,18.6) 213(16.25,18.6) 214(15.75,18.6) 215(15.25,18.6) 216(14.75,18.6) 217(14.25,18.6) 218(13.75,18.6) 219(13.25,18.6) 220(12.75,18.6) 221(12.25,18.6) 222(11.75,18.6) 223(11.25,18.6) 224(10.75,18.6) 225(10.25,18.6) 226(9.75,18.6) 227(9.25,18.6) 228(8.75,18.6) 229(8.25,18.6) 230(7.75,18.6) 231(7.25,18.6) 232(6.75,18.6) 233(6.25,18.6) 234(5.75,18.6) 235(5.25,18.6) 236(4.75,18.6) 237(4.25,18.6) 238(3.75,18.6) 239(3.25,18.6) 240(2.75,18.6) 241(2.25,18.6) 242(1.75,18.6) 243(1.25,18.6) 244(0.75,18.6) 245(0.25,18.6) 246(-0.25,18.6) 247(-0.75,18.6) 248(-1.25,18.6) 249(-1.75,18.6) 250(-2.25,18.6) 251(-2.75,18.6) 252(-3.25,18.6) 253(-3.75,18.6) 254(-4.25,18.6) 255(-4.75,18.6) 256(-5.25,18.6) 257(-5.75,18.6) 258(-6.25,18.6) 259(-6.75,18.6) 260(-7.25,18.6) 261(-7.75,18.6) 262(-8.25,18.6) 263(-8.75,18.6) 264(-9.25,18.6) 265(-9.75,18.6) 266(-10.25,18.6) 267(-10.75,18.6) 268(-11.25,18.6) 269(-11.75,18.6) 270(-12.25,18.6) 271(-12.75,18.6) 272(-13.25,18.6) 273(-13.75,18.6) 274(-14.25,18.6) 275(-14.75,18.6) 276(-15.25,18.6) 277(-15.75,18.6) 278(-16.25,18.6) 279(-16.75,18.6) 280(-17.25,18.6)
Top Overlay:
  circle w0.25: c-19.96,17.25 r0.125
  lines w0.2: -17.4,-17.4 17.4,-17.4 17.4,17.4 -17.4,17.4 -17.4,-17.4

## SQFP36X36-344 [mm] "QFP; 344 Leads; Body 36 x 36 mm; Pitch 0.4 mm"
height 4.2
pads (344):
  rect 1.6x0.25 smd: 1(-18.6,17) 2(-18.6,16.6) 3(-18.6,16.2) 4(-18.6,15.8) 5(-18.6,15.4) 6(-18.6,15) 7(-18.6,14.6) 8(-18.6,14.2) 9(-18.6,13.8) 10(-18.6,13.4) 11(-18.6,13) 12(-18.6,12.6) 13(-18.6,12.2) 14(-18.6,11.8) 15(-18.6,11.4) 16(-18.6,11) 17(-18.6,10.6) 18(-18.6,10.2) 19(-18.6,9.8) 20(-18.6,9.4) 21(-18.6,9) 22(-18.6,8.6) 23(-18.6,8.2) 24(-18.6,7.8) 25(-18.6,7.4) 26(-18.6,7) 27(-18.6,6.6) 28(-18.6,6.2) 29(-18.6,5.8) 30(-18.6,5.4) 31(-18.6,5) 32(-18.6,4.6) 33(-18.6,4.2) 34(-18.6,3.8) 35(-18.6,3.4) 36(-18.6,3) 37(-18.6,2.6) 38(-18.6,2.2) 39(-18.6,1.8) 40(-18.6,1.4) 41(-18.6,1) 42(-18.6,0.6) 43(-18.6,0.2) 44(-18.6,-0.2) 45(-18.6,-0.6) 46(-18.6,-1) 47(-18.6,-1.4) 48(-18.6,-1.8) 49(-18.6,-2.2) 50(-18.6,-2.6) 51(-18.6,-3) 52(-18.6,-3.4) 53(-18.6,-3.8) 54(-18.6,-4.2) 55(-18.6,-4.6) 56(-18.6,-5) 57(-18.6,-5.4) 58(-18.6,-5.8) 59(-18.6,-6.2) 60(-18.6,-6.6) 61(-18.6,-7) 62(-18.6,-7.4) 63(-18.6,-7.8) 64(-18.6,-8.2) 65(-18.6,-8.6) 66(-18.6,-9) 67(-18.6,-9.4) 68(-18.6,-9.8) 69(-18.6,-10.2) 70(-18.6,-10.6) 71(-18.6,-11) 72(-18.6,-11.4) 73(-18.6,-11.8) 74(-18.6,-12.2) 75(-18.6,-12.6) 76(-18.6,-13) 77(-18.6,-13.4) 78(-18.6,-13.8) 79(-18.6,-14.2) 80(-18.6,-14.6) 81(-18.6,-15) 82(-18.6,-15.4) 83(-18.6,-15.8) 84(-18.6,-16.2) 85(-18.6,-16.6) 86(-18.6,-17) 173(18.6,-17) 174(18.6,-16.6) 175(18.6,-16.2) 176(18.6,-15.8) 177(18.6,-15.4) 178(18.6,-15) 179(18.6,-14.6) 180(18.6,-14.2) 181(18.6,-13.8) 182(18.6,-13.4) 183(18.6,-13) 184(18.6,-12.6) 185(18.6,-12.2) 186(18.6,-11.8) 187(18.6,-11.4) 188(18.6,-11) 189(18.6,-10.6) 190(18.6,-10.2) 191(18.6,-9.8) 192(18.6,-9.4) 193(18.6,-9) 194(18.6,-8.6) 195(18.6,-8.2) 196(18.6,-7.8) 197(18.6,-7.4) 198(18.6,-7) 199(18.6,-6.6) 200(18.6,-6.2) 201(18.6,-5.8) 202(18.6,-5.4) 203(18.6,-5) 204(18.6,-4.6) 205(18.6,-4.2) 206(18.6,-3.8) 207(18.6,-3.4) 208(18.6,-3) 209(18.6,-2.6) 210(18.6,-2.2) 211(18.6,-1.8) 212(18.6,-1.4) 213(18.6,-1) 214(18.6,-0.6) 215(18.6,-0.2) 216(18.6,0.2) 217(18.6,0.6) 218(18.6,1) 219(18.6,1.4) 220(18.6,1.8) 221(18.6,2.2) 222(18.6,2.6) 223(18.6,3) 224(18.6,3.4) 225(18.6,3.8) 226(18.6,4.2) 227(18.6,4.6) 228(18.6,5) 229(18.6,5.4) 230(18.6,5.8) 231(18.6,6.2) 232(18.6,6.6) 233(18.6,7) 234(18.6,7.4) 235(18.6,7.8) 236(18.6,8.2) 237(18.6,8.6) 238(18.6,9) 239(18.6,9.4) 240(18.6,9.8) 241(18.6,10.2) 242(18.6,10.6) 243(18.6,11) 244(18.6,11.4) 245(18.6,11.8) 246(18.6,12.2) 247(18.6,12.6) 248(18.6,13) 249(18.6,13.4) 250(18.6,13.8) 251(18.6,14.2) 252(18.6,14.6) 253(18.6,15) 254(18.6,15.4) 255(18.6,15.8) 256(18.6,16.2) 257(18.6,16.6) 258(18.6,17)
  rect 0.25x1.6 smd: 87(-17,-18.6) 88(-16.6,-18.6) 89(-16.2,-18.6) 90(-15.8,-18.6) 91(-15.4,-18.6) 92(-15,-18.6) 93(-14.6,-18.6) 94(-14.2,-18.6) 95(-13.8,-18.6) 96(-13.4,-18.6) 97(-13,-18.6) 98(-12.6,-18.6) 99(-12.2,-18.6) 100(-11.8,-18.6) 101(-11.4,-18.6) 102(-11,-18.6) 103(-10.6,-18.6) 104(-10.2,-18.6) 105(-9.8,-18.6) 106(-9.4,-18.6) 107(-9,-18.6) 108(-8.6,-18.6) 109(-8.2,-18.6) 110(-7.8,-18.6) 111(-7.4,-18.6) 112(-7,-18.6) 113(-6.6,-18.6) 114(-6.2,-18.6) 115(-5.8,-18.6) 116(-5.4,-18.6) 117(-5,-18.6) 118(-4.6,-18.6) 119(-4.2,-18.6) 120(-3.8,-18.6) 121(-3.4,-18.6) 122(-3,-18.6) 123(-2.6,-18.6) 124(-2.2,-18.6) 125(-1.8,-18.6) 126(-1.4,-18.6) 127(-1,-18.6) 128(-0.6,-18.6) 129(-0.2,-18.6) 130(0.2,-18.6) 131(0.6,-18.6) 132(1,-18.6) 133(1.4,-18.6) 134(1.8,-18.6) 135(2.2,-18.6) 136(2.6,-18.6) 137(3,-18.6) 138(3.4,-18.6) 139(3.8,-18.6) 140(4.2,-18.6) 141(4.6,-18.6) 142(5,-18.6) 143(5.4,-18.6) 144(5.8,-18.6) 145(6.2,-18.6) 146(6.6,-18.6) 147(7,-18.6) 148(7.4,-18.6) 149(7.8,-18.6) 150(8.2,-18.6) 151(8.6,-18.6) 152(9,-18.6) 153(9.4,-18.6) 154(9.8,-18.6) 155(10.2,-18.6) 156(10.6,-18.6) 157(11,-18.6) 158(11.4,-18.6) 159(11.8,-18.6) 160(12.2,-18.6) 161(12.6,-18.6) 162(13,-18.6) 163(13.4,-18.6) 164(13.8,-18.6) 165(14.2,-18.6) 166(14.6,-18.6) 167(15,-18.6) 168(15.4,-18.6) 169(15.8,-18.6) 170(16.2,-18.6) 171(16.6,-18.6) 172(17,-18.6) 259(17,18.6) 260(16.6,18.6) 261(16.2,18.6) 262(15.8,18.6) 263(15.4,18.6) 264(15,18.6) 265(14.6,18.6) 266(14.2,18.6) 267(13.8,18.6) 268(13.4,18.6) 269(13,18.6) 270(12.6,18.6) 271(12.2,18.6) 272(11.8,18.6) 273(11.4,18.6) 274(11,18.6) 275(10.6,18.6) 276(10.2,18.6) 277(9.8,18.6) 278(9.4,18.6) 279(9,18.6) 280(8.6,18.6) 281(8.2,18.6) 282(7.8,18.6) 283(7.4,18.6) 284(7,18.6) 285(6.6,18.6) 286(6.2,18.6) 287(5.8,18.6) 288(5.4,18.6) 289(5,18.6) 290(4.6,18.6) 291(4.2,18.6) 292(3.8,18.6) 293(3.4,18.6) 294(3,18.6) 295(2.6,18.6) 296(2.2,18.6) 297(1.8,18.6) 298(1.4,18.6) 299(1,18.6) 300(0.6,18.6) 301(0.2,18.6) 302(-0.2,18.6) 303(-0.6,18.6) 304(-1,18.6) 305(-1.4,18.6) 306(-1.8,18.6) 307(-2.2,18.6) 308(-2.6,18.6) 309(-3,18.6) 310(-3.4,18.6) 311(-3.8,18.6) 312(-4.2,18.6) 313(-4.6,18.6) 314(-5,18.6) 315(-5.4,18.6) 316(-5.8,18.6) 317(-6.2,18.6) 318(-6.6,18.6) 319(-7,18.6) 320(-7.4,18.6) 321(-7.8,18.6) 322(-8.2,18.6) 323(-8.6,18.6) 324(-9,18.6) 325(-9.4,18.6) 326(-9.8,18.6) 327(-10.2,18.6) 328(-10.6,18.6) 329(-11,18.6) 330(-11.4,18.6) 331(-11.8,18.6) 332(-12.2,18.6) 333(-12.6,18.6) 334(-13,18.6) 335(-13.4,18.6) 336(-13.8,18.6) 337(-14.2,18.6) 338(-14.6,18.6) 339(-15,18.6) 340(-15.4,18.6) 341(-15.8,18.6) 342(-16.2,18.6) 343(-16.6,18.6) 344(-17,18.6)
Top Overlay:
  circle w0.6: c-16.4,16.4 r0.3
  circle w0.25: c-19.96,17 r0.125
  lines w0.2: -17.4,-17.4 -17.4,17.4 17.4,17.4 17.4,-17.4 -17.4,-17.4

## SQFP36X36-352 [mm] "QFP; 352 Leads; Body 36 x 36 mm; Pitch 0.4 mm"
height 4.2
pads (352):
  rect 1.6x0.25 smd: 1(-18.6,17.4) 2(-18.6,17) 3(-18.6,16.6) 4(-18.6,16.2) 5(-18.6,15.8) 6(-18.6,15.4) 7(-18.6,15) 8(-18.6,14.6) 9(-18.6,14.2) 10(-18.6,13.8) 11(-18.6,13.4) 12(-18.6,13) 13(-18.6,12.6) 14(-18.6,12.2) 15(-18.6,11.8) 16(-18.6,11.4) 17(-18.6,11) 18(-18.6,10.6) 19(-18.6,10.2) 20(-18.6,9.8) 21(-18.6,9.4) 22(-18.6,9) 23(-18.6,8.6) 24(-18.6,8.2) 25(-18.6,7.8) 26(-18.6,7.4) 27(-18.6,7) 28(-18.6,6.6) 29(-18.6,6.2) 30(-18.6,5.8) 31(-18.6,5.4) 32(-18.6,5) 33(-18.6,4.6) 34(-18.6,4.2) 35(-18.6,3.8) 36(-18.6,3.4) 37(-18.6,3) 38(-18.6,2.6) 39(-18.6,2.2) 40(-18.6,1.8) 41(-18.6,1.4) 42(-18.6,1) 43(-18.6,0.6) 44(-18.6,0.2) 45(-18.6,-0.2) 46(-18.6,-0.6) 47(-18.6,-1) 48(-18.6,-1.4) 49(-18.6,-1.8) 50(-18.6,-2.2) 51(-18.6,-2.6) 52(-18.6,-3) 53(-18.6,-3.4) 54(-18.6,-3.8) 55(-18.6,-4.2) 56(-18.6,-4.6) 57(-18.6,-5) 58(-18.6,-5.4) 59(-18.6,-5.8) 60(-18.6,-6.2) 61(-18.6,-6.6) 62(-18.6,-7) 63(-18.6,-7.4) 64(-18.6,-7.8) 65(-18.6,-8.2) 66(-18.6,-8.6) 67(-18.6,-9) 68(-18.6,-9.4) 69(-18.6,-9.8) 70(-18.6,-10.2) 71(-18.6,-10.6) 72(-18.6,-11) 73(-18.6,-11.4) 74(-18.6,-11.8) 75(-18.6,-12.2) 76(-18.6,-12.6) 77(-18.6,-13) 78(-18.6,-13.4) 79(-18.6,-13.8) 80(-18.6,-14.2) 81(-18.6,-14.6) 82(-18.6,-15) 83(-18.6,-15.4) 84(-18.6,-15.8) 85(-18.6,-16.2) 86(-18.6,-16.6) 87(-18.6,-17) 88(-18.6,-17.4) 177(18.6,-17.4) 178(18.6,-17) 179(18.6,-16.6) 180(18.6,-16.2) 181(18.6,-15.8) 182(18.6,-15.4) 183(18.6,-15) 184(18.6,-14.6) 185(18.6,-14.2) 186(18.6,-13.8) 187(18.6,-13.4) 188(18.6,-13) 189(18.6,-12.6) 190(18.6,-12.2) 191(18.6,-11.8) 192(18.6,-11.4) 193(18.6,-11) 194(18.6,-10.6) 195(18.6,-10.2) 196(18.6,-9.8) 197(18.6,-9.4) 198(18.6,-9) 199(18.6,-8.6) 200(18.6,-8.2) 201(18.6,-7.8) 202(18.6,-7.4) 203(18.6,-7) 204(18.6,-6.6) 205(18.6,-6.2) 206(18.6,-5.8) 207(18.6,-5.4) 208(18.6,-5) 209(18.6,-4.6) 210(18.6,-4.2) 211(18.6,-3.8) 212(18.6,-3.4) 213(18.6,-3) 214(18.6,-2.6) 215(18.6,-2.2) 216(18.6,-1.8) 217(18.6,-1.4) 218(18.6,-1) 219(18.6,-0.6) 220(18.6,-0.2) 221(18.6,0.2) 222(18.6,0.6) 223(18.6,1) 224(18.6,1.4) 225(18.6,1.8) 226(18.6,2.2) 227(18.6,2.6) 228(18.6,3) 229(18.6,3.4) 230(18.6,3.8) 231(18.6,4.2) 232(18.6,4.6) 233(18.6,5) 234(18.6,5.4) 235(18.6,5.8) 236(18.6,6.2) 237(18.6,6.6) 238(18.6,7) 239(18.6,7.4) 240(18.6,7.8) 241(18.6,8.2) 242(18.6,8.6) 243(18.6,9) 244(18.6,9.4) 245(18.6,9.8) 246(18.6,10.2) 247(18.6,10.6) 248(18.6,11) 249(18.6,11.4) 250(18.6,11.8) 251(18.6,12.2) 252(18.6,12.6) 253(18.6,13) 254(18.6,13.4) 255(18.6,13.8) 256(18.6,14.2) 257(18.6,14.6) 258(18.6,15) 259(18.6,15.4) 260(18.6,15.8) 261(18.6,16.2) 262(18.6,16.6) 263(18.6,17) 264(18.6,17.4)
  rect 0.25x1.6 smd: 89(-17.4,-18.6) 90(-17,-18.6) 91(-16.6,-18.6) 92(-16.2,-18.6) 93(-15.8,-18.6) 94(-15.4,-18.6) 95(-15,-18.6) 96(-14.6,-18.6) 97(-14.2,-18.6) 98(-13.8,-18.6) 99(-13.4,-18.6) 100(-13,-18.6) 101(-12.6,-18.6) 102(-12.2,-18.6) 103(-11.8,-18.6) 104(-11.4,-18.6) 105(-11,-18.6) 106(-10.6,-18.6) 107(-10.2,-18.6) 108(-9.8,-18.6) 109(-9.4,-18.6) 110(-9,-18.6) 111(-8.6,-18.6) 112(-8.2,-18.6) 113(-7.8,-18.6) 114(-7.4,-18.6) 115(-7,-18.6) 116(-6.6,-18.6) 117(-6.2,-18.6) 118(-5.8,-18.6) 119(-5.4,-18.6) 120(-5,-18.6) 121(-4.6,-18.6) 122(-4.2,-18.6) 123(-3.8,-18.6) 124(-3.4,-18.6) 125(-3,-18.6) 126(-2.6,-18.6) 127(-2.2,-18.6) 128(-1.8,-18.6) 129(-1.4,-18.6) 130(-1,-18.6) 131(-0.6,-18.6) 132(-0.2,-18.6) 133(0.2,-18.6) 134(0.6,-18.6) 135(1,-18.6) 136(1.4,-18.6) 137(1.8,-18.6) 138(2.2,-18.6) 139(2.6,-18.6) 140(3,-18.6) 141(3.4,-18.6) 142(3.8,-18.6) 143(4.2,-18.6) 144(4.6,-18.6) 145(5,-18.6) 146(5.4,-18.6) 147(5.8,-18.6) 148(6.2,-18.6) 149(6.6,-18.6) 150(7,-18.6) 151(7.4,-18.6) 152(7.8,-18.6) 153(8.2,-18.6) 154(8.6,-18.6) 155(9,-18.6) 156(9.4,-18.6) 157(9.8,-18.6) 158(10.2,-18.6) 159(10.6,-18.6) 160(11,-18.6) 161(11.4,-18.6) 162(11.8,-18.6) 163(12.2,-18.6) 164(12.6,-18.6) 165(13,-18.6) 166(13.4,-18.6) 167(13.8,-18.6) 168(14.2,-18.6) 169(14.6,-18.6) 170(15,-18.6) 171(15.4,-18.6) 172(15.8,-18.6) 173(16.2,-18.6) 174(16.6,-18.6) 175(17,-18.6) 176(17.4,-18.6) 265(17.4,18.6) 266(17,18.6) 267(16.6,18.6) 268(16.2,18.6) 269(15.8,18.6) 270(15.4,18.6) 271(15,18.6) 272(14.6,18.6) 273(14.2,18.6) 274(13.8,18.6) 275(13.4,18.6) 276(13,18.6) 277(12.6,18.6) 278(12.2,18.6) 279(11.8,18.6) 280(11.4,18.6) 281(11,18.6) 282(10.6,18.6) 283(10.2,18.6) 284(9.8,18.6) 285(9.4,18.6) 286(9,18.6) 287(8.6,18.6) 288(8.2,18.6) 289(7.8,18.6) 290(7.4,18.6) 291(7,18.6) 292(6.6,18.6) 293(6.2,18.6) 294(5.8,18.6) 295(5.4,18.6) 296(5,18.6) 297(4.6,18.6) 298(4.2,18.6) 299(3.8,18.6) 300(3.4,18.6) 301(3,18.6) 302(2.6,18.6) 303(2.2,18.6) 304(1.8,18.6) 305(1.4,18.6) 306(1,18.6) 307(0.6,18.6) 308(0.2,18.6) 309(-0.2,18.6) 310(-0.6,18.6) 311(-1,18.6) 312(-1.4,18.6) 313(-1.8,18.6) 314(-2.2,18.6) 315(-2.6,18.6) 316(-3,18.6) 317(-3.4,18.6) 318(-3.8,18.6) 319(-4.2,18.6) 320(-4.6,18.6) 321(-5,18.6) 322(-5.4,18.6) 323(-5.8,18.6) 324(-6.2,18.6) 325(-6.6,18.6) 326(-7,18.6) 327(-7.4,18.6) 328(-7.8,18.6) 329(-8.2,18.6) 330(-8.6,18.6) 331(-9,18.6) 332(-9.4,18.6) 333(-9.8,18.6) 334(-10.2,18.6) 335(-10.6,18.6) 336(-11,18.6) 337(-11.4,18.6) 338(-11.8,18.6) 339(-12.2,18.6) 340(-12.6,18.6) 341(-13,18.6) 342(-13.4,18.6) 343(-13.8,18.6) 344(-14.2,18.6) 345(-14.6,18.6) 346(-15,18.6) 347(-15.4,18.6) 348(-15.8,18.6) 349(-16.2,18.6) 350(-16.6,18.6) 351(-17,18.6) 352(-17.4,18.6)
Top Overlay:
  circle w0.25: c-19.96,17.4 r0.125
  circle w0.6: c-16.4,16.4 r0.3
  lines w0.2: -17.4,-17.4 17.4,-17.4 17.4,17.4 -17.4,17.4 -17.4,-17.4

## SQFP36X36-456 [mm] "QFP; 456 Leads; Body 36 x 36 mm; Pitch 0.3 mm"
height 4.2
pads (456):
  rect 1.6x0.17 smd: 1(-18.6,16.95) 2(-18.6,16.65) 3(-18.6,16.35) 4(-18.6,16.05) 5(-18.6,15.75) 6(-18.6,15.45) 7(-18.6,15.15) 8(-18.6,14.85) 9(-18.6,14.55) 10(-18.6,14.25) 11(-18.6,13.95) 12(-18.6,13.65) 13(-18.6,13.35) 14(-18.6,13.05) 15(-18.6,12.75) 16(-18.6,12.45) 17(-18.6,12.15) 18(-18.6,11.85) 19(-18.6,11.55) 20(-18.6,11.25) 21(-18.6,10.95) 22(-18.6,10.65) 23(-18.6,10.35) 24(-18.6,10.05) 25(-18.6,9.75) 26(-18.6,9.45) 27(-18.6,9.15) 28(-18.6,8.85) 29(-18.6,8.55) 30(-18.6,8.25) 31(-18.6,7.95) 32(-18.6,7.65) 33(-18.6,7.35) 34(-18.6,7.05) 35(-18.6,6.75) 36(-18.6,6.45) 37(-18.6,6.15) 38(-18.6,5.85) 39(-18.6,5.55) 40(-18.6,5.25) 41(-18.6,4.95) 42(-18.6,4.65) 43(-18.6,4.35) 44(-18.6,4.05) 45(-18.6,3.75) 46(-18.6,3.45) 47(-18.6,3.15) 48(-18.6,2.85) 49(-18.6,2.55) 50(-18.6,2.25) 51(-18.6,1.95) 52(-18.6,1.65) 53(-18.6,1.35) 54(-18.6,1.05) 55(-18.6,0.75) 56(-18.6,0.45) 57(-18.6,0.15) 58(-18.6,-0.15) 59(-18.6,-0.45) 60(-18.6,-0.75) 61(-18.6,-1.05) 62(-18.6,-1.35) 63(-18.6,-1.65) 64(-18.6,-1.95) 65(-18.6,-2.25) 66(-18.6,-2.55) 67(-18.6,-2.85) 68(-18.6,-3.15) 69(-18.6,-3.45) 70(-18.6,-3.75) 71(-18.6,-4.05) 72(-18.6,-4.35) 73(-18.6,-4.65) 74(-18.6,-4.95) 75(-18.6,-5.25) 76(-18.6,-5.55) 77(-18.6,-5.85) 78(-18.6,-6.15) 79(-18.6,-6.45) 80(-18.6,-6.75) 81(-18.6,-7.05) 82(-18.6,-7.35) 83(-18.6,-7.65) 84(-18.6,-7.95) 85(-18.6,-8.25) 86(-18.6,-8.55) 87(-18.6,-8.85) 88(-18.6,-9.15) 89(-18.6,-9.45) 90(-18.6,-9.75) 91(-18.6,-10.05) 92(-18.6,-10.35) 93(-18.6,-10.65) 94(-18.6,-10.95) 95(-18.6,-11.25) 96(-18.6,-11.55) 97(-18.6,-11.85) 98(-18.6,-12.15) 99(-18.6,-12.45) 100(-18.6,-12.75) 101(-18.6,-13.05) 102(-18.6,-13.35) 103(-18.6,-13.65) 104(-18.6,-13.95) 105(-18.6,-14.25) 106(-18.6,-14.55) 107(-18.6,-14.85) 108(-18.6,-15.15) 109(-18.6,-15.45) 110(-18.6,-15.75) 111(-18.6,-16.05) 112(-18.6,-16.35) 113(-18.6,-16.65) 114(-18.6,-16.95) 229(18.6,-16.95) 230(18.6,-16.65) 231(18.6,-16.35) 232(18.6,-16.05) 233(18.6,-15.75) 234(18.6,-15.45) 235(18.6,-15.15) 236(18.6,-14.85) 237(18.6,-14.55) 238(18.6,-14.25) 239(18.6,-13.95) 240(18.6,-13.65) 241(18.6,-13.35) 242(18.6,-13.05) 243(18.6,-12.75) 244(18.6,-12.45) 245(18.6,-12.15) 246(18.6,-11.85) 247(18.6,-11.55) 248(18.6,-11.25) 249(18.6,-10.95) 250(18.6,-10.65) 251(18.6,-10.35) 252(18.6,-10.05) 253(18.6,-9.75) 254(18.6,-9.45) 255(18.6,-9.15) 256(18.6,-8.85) 257(18.6,-8.55) 258(18.6,-8.25) 259(18.6,-7.95) 260(18.6,-7.65) 261(18.6,-7.35) 262(18.6,-7.05) 263(18.6,-6.75) 264(18.6,-6.45) 265(18.6,-6.15) 266(18.6,-5.85) 267(18.6,-5.55) 268(18.6,-5.25) 269(18.6,-4.95) 270(18.6,-4.65) 271(18.6,-4.35) 272(18.6,-4.05) 273(18.6,-3.75) 274(18.6,-3.45) 275(18.6,-3.15) 276(18.6,-2.85) 277(18.6,-2.55) 278(18.6,-2.25) 279(18.6,-1.95) 280(18.6,-1.65) 281(18.6,-1.35) 282(18.6,-1.05) 283(18.6,-0.75) 284(18.6,-0.45) 285(18.6,-0.15) 286(18.6,0.15) 287(18.6,0.45) 288(18.6,0.75) 289(18.6,1.05) 290(18.6,1.35) 291(18.6,1.65) 292(18.6,1.95) 293(18.6,2.25) 294(18.6,2.55) 295(18.6,2.85) 296(18.6,3.15) 297(18.6,3.45) 298(18.6,3.75) 299(18.6,4.05) 300(18.6,4.35) 301(18.6,4.65) 302(18.6,4.95) 303(18.6,5.25) 304(18.6,5.55) 305(18.6,5.85) 306(18.6,6.15) 307(18.6,6.45) 308(18.6,6.75) 309(18.6,7.05) 310(18.6,7.35) 311(18.6,7.65) 312(18.6,7.95) 313(18.6,8.25) 314(18.6,8.55) 315(18.6,8.85) 316(18.6,9.15) 317(18.6,9.45) 318(18.6,9.75) 319(18.6,10.05) 320(18.6,10.35) 321(18.6,10.65) 322(18.6,10.95) 323(18.6,11.25) 324(18.6,11.55) 325(18.6,11.85) 326(18.6,12.15) 327(18.6,12.45) 328(18.6,12.75) 329(18.6,13.05) 330(18.6,13.35) 331(18.6,13.65) 332(18.6,13.95) 333(18.6,14.25) 334(18.6,14.55) 335(18.6,14.85) 336(18.6,15.15) 337(18.6,15.45) 338(18.6,15.75) 339(18.6,16.05) 340(18.6,16.35) 341(18.6,16.65) 342(18.6,16.95)
  rect 0.17x1.6 smd: 115(-16.95,-18.6) 116(-16.65,-18.6) 117(-16.35,-18.6) 118(-16.05,-18.6) 119(-15.75,-18.6) 120(-15.45,-18.6) 121(-15.15,-18.6) 122(-14.85,-18.6) 123(-14.55,-18.6) 124(-14.25,-18.6) 125(-13.95,-18.6) 126(-13.65,-18.6) 127(-13.35,-18.6) 128(-13.05,-18.6) 129(-12.75,-18.6) 130(-12.45,-18.6) 131(-12.15,-18.6) 132(-11.85,-18.6) 133(-11.55,-18.6) 134(-11.25,-18.6) 135(-10.95,-18.6) 136(-10.65,-18.6) 137(-10.35,-18.6) 138(-10.05,-18.6) 139(-9.75,-18.6) 140(-9.45,-18.6) 141(-9.15,-18.6) 142(-8.85,-18.6) 143(-8.55,-18.6) 144(-8.25,-18.6) 145(-7.95,-18.6) 146(-7.65,-18.6) 147(-7.35,-18.6) 148(-7.05,-18.6) 149(-6.75,-18.6) 150(-6.45,-18.6) 151(-6.15,-18.6) 152(-5.85,-18.6) 153(-5.55,-18.6) 154(-5.25,-18.6) 155(-4.95,-18.6) 156(-4.65,-18.6) 157(-4.35,-18.6) 158(-4.05,-18.6) 159(-3.75,-18.6) 160(-3.45,-18.6) 161(-3.15,-18.6) 162(-2.85,-18.6) 163(-2.55,-18.6) 164(-2.25,-18.6) 165(-1.95,-18.6) 166(-1.65,-18.6) 167(-1.35,-18.6) 168(-1.05,-18.6) 169(-0.75,-18.6) 170(-0.45,-18.6) 171(-0.15,-18.6) 172(0.15,-18.6) 173(0.45,-18.6) 174(0.75,-18.6) 175(1.05,-18.6) 176(1.35,-18.6) 177(1.65,-18.6) 178(1.95,-18.6) 179(2.25,-18.6) 180(2.55,-18.6) 181(2.85,-18.6) 182(3.15,-18.6) 183(3.45,-18.6) 184(3.75,-18.6) 185(4.05,-18.6) 186(4.35,-18.6) 187(4.65,-18.6) 188(4.95,-18.6) 189(5.25,-18.6) 190(5.55,-18.6) 191(5.85,-18.6) 192(6.15,-18.6) 193(6.45,-18.6) 194(6.75,-18.6) 195(7.05,-18.6) 196(7.35,-18.6) 197(7.65,-18.6) 198(7.95,-18.6) 199(8.25,-18.6) 200(8.55,-18.6) 201(8.85,-18.6) 202(9.15,-18.6) 203(9.45,-18.6) 204(9.75,-18.6) 205(10.05,-18.6) 206(10.35,-18.6) 207(10.65,-18.6) 208(10.95,-18.6) 209(11.25,-18.6) 210(11.55,-18.6) 211(11.85,-18.6) 212(12.15,-18.6) 213(12.45,-18.6) 214(12.75,-18.6) 215(13.05,-18.6) 216(13.35,-18.6) 217(13.65,-18.6) 218(13.95,-18.6) 219(14.25,-18.6) 220(14.55,-18.6) 221(14.85,-18.6) 222(15.15,-18.6) 223(15.45,-18.6) 224(15.75,-18.6) 225(16.05,-18.6) 226(16.35,-18.6) 227(16.65,-18.6) 228(16.95,-18.6) 343(16.95,18.6) 344(16.65,18.6) 345(16.35,18.6) 346(16.05,18.6) 347(15.75,18.6) 348(15.45,18.6) 349(15.15,18.6) 350(14.85,18.6) 351(14.55,18.6) 352(14.25,18.6) 353(13.95,18.6) 354(13.65,18.6) 355(13.35,18.6) 356(13.05,18.6) 357(12.75,18.6) 358(12.45,18.6) 359(12.15,18.6) 360(11.85,18.6) 361(11.55,18.6) 362(11.25,18.6) 363(10.95,18.6) 364(10.65,18.6) 365(10.35,18.6) 366(10.05,18.6) 367(9.75,18.6) 368(9.45,18.6) 369(9.15,18.6) 370(8.85,18.6) 371(8.55,18.6) 372(8.25,18.6) 373(7.95,18.6) 374(7.65,18.6) 375(7.35,18.6) 376(7.05,18.6) 377(6.75,18.6) 378(6.45,18.6) 379(6.15,18.6) 380(5.85,18.6) 381(5.55,18.6) 382(5.25,18.6) 383(4.95,18.6) 384(4.65,18.6) 385(4.35,18.6) 386(4.05,18.6) 387(3.75,18.6) 388(3.45,18.6) 389(3.15,18.6) 390(2.85,18.6) 391(2.55,18.6) 392(2.25,18.6) 393(1.95,18.6) 394(1.65,18.6) 395(1.35,18.6) 396(1.05,18.6) 397(0.75,18.6) 398(0.45,18.6) 399(0.15,18.6) 400(-0.15,18.6) 401(-0.45,18.6) 402(-0.75,18.6) 403(-1.05,18.6) 404(-1.35,18.6) 405(-1.65,18.6) 406(-1.95,18.6) 407(-2.25,18.6) 408(-2.55,18.6) 409(-2.85,18.6) 410(-3.15,18.6) 411(-3.45,18.6) 412(-3.75,18.6) 413(-4.05,18.6) 414(-4.35,18.6) 415(-4.65,18.6) 416(-4.95,18.6) 417(-5.25,18.6) 418(-5.55,18.6) 419(-5.85,18.6) 420(-6.15,18.6) 421(-6.45,18.6) 422(-6.75,18.6) 423(-7.05,18.6) 424(-7.35,18.6) 425(-7.65,18.6) 426(-7.95,18.6) 427(-8.25,18.6) 428(-8.55,18.6) 429(-8.85,18.6) 430(-9.15,18.6) 431(-9.45,18.6) 432(-9.75,18.6) 433(-10.05,18.6) 434(-10.35,18.6) 435(-10.65,18.6) 436(-10.95,18.6) 437(-11.25,18.6) 438(-11.55,18.6) 439(-11.85,18.6) 440(-12.15,18.6) 441(-12.45,18.6) 442(-12.75,18.6) 443(-13.05,18.6) 444(-13.35,18.6) 445(-13.65,18.6) 446(-13.95,18.6) 447(-14.25,18.6) 448(-14.55,18.6) 449(-14.85,18.6) 450(-15.15,18.6) 451(-15.45,18.6) 452(-15.75,18.6) 453(-16.05,18.6) 454(-16.35,18.6) 455(-16.65,18.6) 456(-16.95,18.6)
Top Overlay:
  circle w0.25: c-19.96,16.95 r0.125
  circle w0.6: c-16.4,16.4 r0.3
  lines w0.2: -17.4,-17.4 17.4,-17.4 17.4,17.4 -17.4,17.4 -17.4,-17.4